# Altium footprint library robot_eseo.PcbLib: 96 footprints (part 1 of 6)
Each footprint in its own frame and in the unit in brackets; x right, y up, seen from the top. Pads: shape width x height; smd on the part's side, far side on the other; paste and mask are expansions set on the pad; w line width, h text height; cw(c..) or ccw(c..) is an arc to the next point about the centre after c.
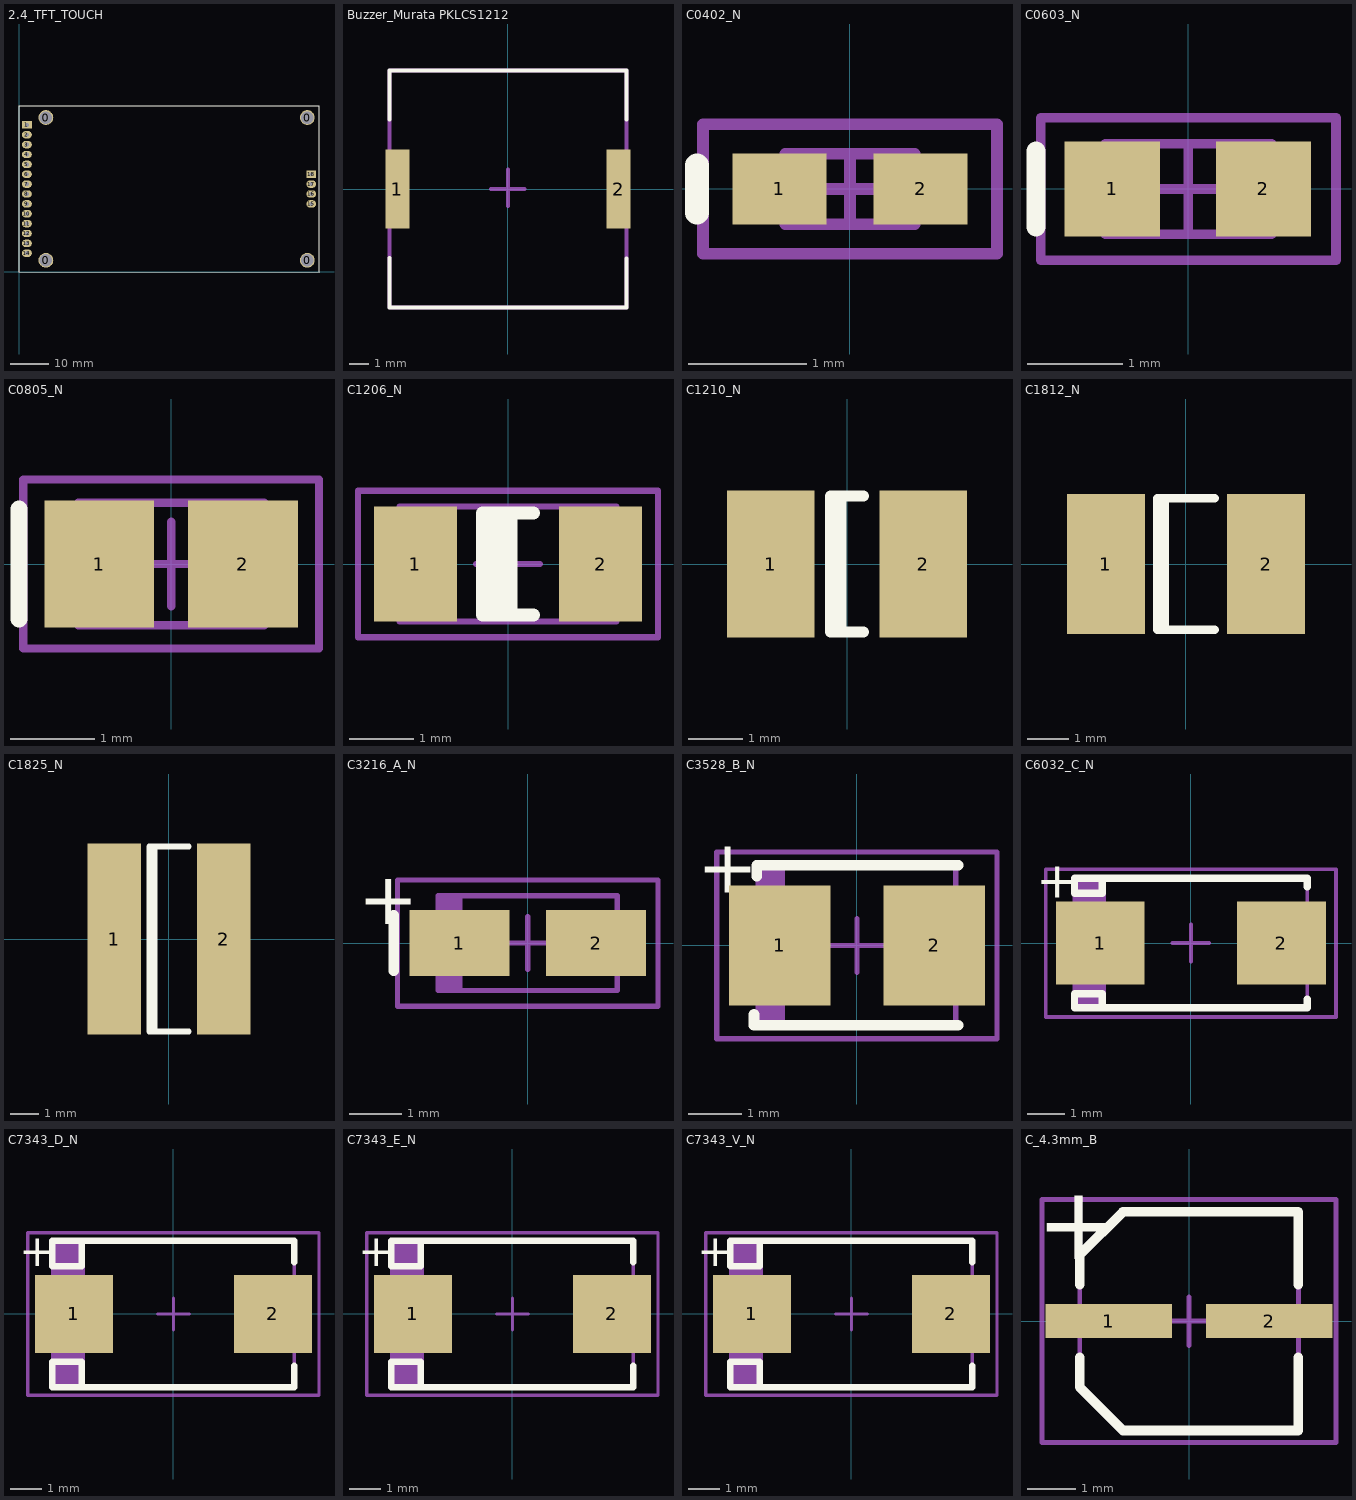
[diagram p0: the footprints below, top view; thin cyan lines are the x and y axes]

## 2.4_TFT_TOUCH [mil]
pads (22):
  round 150 hole 125: 0(272.44,118.11) 0(272.44,1563.78) 0(2920.47,118.11) 0(2920.47,1563.78)
  rect 100x75 hole 40: 1(80,1490) 18(2959.84,990)
  oval 100x75 hole 40: 2(80,1390) 3(80,1290) 4(80,1190) 5(80,1090) 6(80,990) 7(80,890) 8(80,790) 9(80,690) 10(80,590) 11(80,490) 12(80,390) 13(80,290) 14(80,190) 15(2959.84,690) 16(2959.84,790) 17(2959.84,890)
Top Overlay:
  lines w10: 0,0 3038.58,-0.94 ; 0,1681.89 3038.58,1681.89 3038.58,0 ; 1.26,-0.94 1.26,1681.89
3D body "2.4_TFT_TOUCH.STEP": height 337.17, standoff -233.7, extent 0,-0.95 3038.58,1680.95

## Buzzer_Murata PKLCS1212 [mm] "Buzzer_SMD_12x12mm Murata PKLCS1212"
height 3
pads (2):
  rect 1.2x4 smd: 1(-5.6,0) 2(5.6,0)
Top Overlay:
  lines w0.2: -6,-3.5 -6,-6 6,-6 6,-3.525 ; -6,3.525 -6,6 6,6 6,3.525
Mechanical 15:
  lines w0.2: -0.875,0 0.85,0 ; 0,-0.875 0,1 ; -6,-6 6,-6 6,6 -6,6 -6,-6
3D body: height 0, standoff 0, extent -6.302,-2.102 6.302,2.102
3D body: height 0, standoff 0, extent -5.999,-5.999 5.999,5.999
3D body: height 3, standoff 0, extent -6.1,-6.1 6.1,6.1

## C0402_N [mm] "Chip Capacitor, Body 1.0x0.5mm, IPC Medium Density"
height 0.6
pads (2):
  rect 0.8x0.6 smd: 1(-0.6,0) 2(0.6,0)
Top Overlay:
  lines w0.2: -1.3,-0.2 -1.3,0.2
Mechanical 13:
  lines w0.1: -0.55,-0.3 0.55,-0.3 0.55,0.3 -0.55,0.3 -0.55,-0.3
Mechanical 15:
  lines w0.1: -0.3,0 0.3,0 ; 0,-0.3 0,0.3 ; -1.25,-0.55 1.25,-0.55 1.25,0.55 -1.25,0.55 -1.25,-0.55
3D body "0402 SMD Capacitor.step": height 0.2, standoff 0, extent -0.5,-0.3 0.5,0.3

## C0603_N [mm] "Chip Capacitor, Body 1.6x0.8mm, IPC Medium Density"
height 0.85
pads (2):
  rect 1x1 smd: 1(-0.8,0) 2(0.787,0)
Top Overlay:
  lines w0.2: -1.6,-0.4 -1.6,0.4
Mechanical 13:
  lines w0.1: -0.875,-0.475 0.875,-0.475 0.875,0.475 -0.875,0.475 -0.875,-0.475
Mechanical 15:
  lines w0.1: -0.475,0 0.475,0 ; 0,-0.475 0,0.475 ; -1.55,-0.75 1.55,-0.75 1.55,0.75 -1.55,0.75 -1.55,-0.75
3D body "0603 SMD Capacitor.step": height 0.32, standoff 0.02, extent -0.8,-0.394 0.8,0.406

## C0805_N [mm] "Chip Capacitor, Body 2.0x1.3mm, IPC Medium Density"
height 1.1
pads (2):
  rect 1.3x1.5 smd: 1(-0.85,0) 2(0.85,0)
Top Overlay:
  lines w0.2: -1.8,-0.65 -1.8,0.65
Mechanical 13:
  lines w0.1: -1.1,-0.725 -1.1,0.725 1.1,0.725 1.1,-0.725 -1.1,-0.725
Mechanical 15:
  lines w0.1: -0.5,0 0.5,0 ; 0,-0.5 0,0.5 ; -1.75,-1 -1.75,1 1.75,1 1.75,-1 -1.75,-1
3D body "0805 SMD Capacitor.step": height 0.8, standoff 0.02, extent -0.991,-0.625 1.009,0.625

## C1206_N [mm] "Chip Capacitor, Body 3.2x1.6mm, IPC Medium Density"
height 1.35
pads (2):
  rect 1.3x1.8 smd: 1(-1.45,0) 2(1.45,0)
Top Overlay:
  rectangle: -0.4,-0.8 0.15,0.8
  lines w0.2: 0.4,-0.8 -0.4,-0.8 -0.4,0.8 0.4,0.8
Mechanical 13:
  lines w0.1: -1.7,-0.9 1.7,-0.9 1.7,0.9 -1.7,0.9 -1.7,-0.9
Mechanical 15:
  lines w0.1: -0.5,0 0.5,0 ; 0,-0.5 0,0.5 ; -2.35,-1.15 2.35,-1.15 2.35,1.15 -2.35,1.15 -2.35,-1.15
3D body "1206 SMD Capacitor.step": height 1.02, standoff 0.02, extent -1.575,-0.813 1.625,0.787

## C1210_N [mm] "Chip Capacitor; Body 3.2 x 2.5 mm (LxW typ)"
height 1.35
pads (2):
  rect 1.6x2.7 smd: 1(-1.4,0) 2(1.4,0)
Top Overlay:
  lines w0.2: -0.11,-1.25 -0.11,1.25 ; 0.3,-1.25 -0.3,-1.25 -0.3,1.25 0.3,1.25
3D body "1210 SMD Capacitor.step": height 2.5, standoff 0, extent -1.575,-1.255 1.625,1.245

## C1812_N [mm] "Chip Capacitor; Body 4.5 x 3.2 mm (LxW typ)"
height 1.1
pads (2):
  rect 1.9x3.4 smd: 1(-1.95,0) 2(1.95,0)
Top Overlay:
  lines w0.2: -0.51,-1.6 -0.51,1.6 ; 0.7,-1.6 -0.7,-1.6 -0.7,1.6 0.7,1.6
3D body "1812 SMD Capacitor.step": height 1.62, standoff 0.02, extent -2.199,-1.6 2.301,1.6

## C1825_N [mm] "Chip Capacitor; Body 4.5 x 6.4 mm (LxW typ)"
height 1.1
pads (2):
  rect 1.9x6.8 smd: 1(-1.95,0) 2(1.95,0)
Top Overlay:
  lines w0.2: -0.51,-3.3 -0.51,3.3 ; 0.7,-3.3 -0.7,-3.3 -0.7,3.3 0.7,3.3
3D body: height 1.1, standoff 0, extent -2.261,-3.226 2.261,3.175

## C3216_A_N [mm] "Capacitor Tantalium Solid,Caze A, IPC Medium Density"
height 2
pads (2):
  rect 1.9x1.25 smd: 1(-1.3,0) 2(1.3,0)
Top Overlay:
  lines w0.2: -2.55,-0.525 -2.55,0.525
  text "+" at -3.226,0.356 h1
Mechanical 13:
  rectangle: -1.7,-0.9 -1.243,0.9
  lines w0.1: -1.7,-0.9 1.7,-0.9 1.7,0.9 -1.7,0.9 -1.7,-0.9
Mechanical 15:
  lines w0.1: -0.5,0 0.5,0 ; 0,-0.5 0,0.5 ; -2.475,-1.2 2.475,-1.2 2.475,1.2 -2.475,1.2 -2.475,-1.2
3D body: height 2, standoff 0, extent -1.7,-0.9 1.7,0.9
3D body "Tantal_A.STEP": height 1.61, standoff 0, extent -1.575,-0.8 1.616,0.8

## C3528_B_N [mm] "Capacitor Tantalium Solid,Caze B, IPC Medium Density"
height 2.1
pads (2):
  rect 1.9x2.25 smd: 1(-1.45,0) 2(1.45,0)
Top Overlay:
  lines w0.2: -1.93,-1.295 -1.93,-1.499 1.895,-1.499 ; -1.88,1.295 -1.88,1.499 ; 1.9,1.5 -1.88,1.499 ; -1.88,1.499 -1.88,1.499
  text "+" at -2.997,0.991 h1
Mechanical 13:
  rectangle: -1.85,-1.5 -1.352,1.5
  lines w0.1: -1.85,-1.5 -1.85,1.5 1.85,1.5 1.85,-1.5 -1.85,-1.5
Mechanical 15:
  lines w0.1: -0.5,0 0.5,0 ; 0,-0.5 0,0.5 ; -2.625,-1.75 -2.625,1.75 2.625,1.75 2.625,-1.75 -2.625,-1.75
3D body: height 2.1, standoff 0, extent -1.85,-1.5 1.85,1.5
3D body "Tantal_B.STEP": height 1.91, standoff 0, extent -1.746,-1.4 1.746,1.4

## C6032_C_N [mm] "Capacitor Tantalium Solid,Caze C, IPC Medium Density"
height 2.8
pads (2):
  rect 2.4x2.25 smd: 1(-2.45,0) 2(2.45,0)
Top Overlay:
  lines w0.2: -2.4,-1.75 -2.4,-1.375 -3.15,-1.375 -3.15,-1.75 3.15,-1.75 3.15,-1.525 ; -2.4,1.75 -2.4,1.35 -3.15,1.35 -3.15,1.75 3.15,1.75 3.15,1.525
  text "+" at -4.191,1.219 h1
Mechanical 13:
  rectangle: -3.15,-1.75 -2.303,1.75
  lines w0.1: -3.15,-1.75 -3.15,1.75 3.15,1.75 3.15,-1.75 -3.15,-1.75
Mechanical 15:
  lines w0.1: -0.5,0 0.5,0 ; 0,-0.5 0,0.5 ; -3.925,-2 -3.925,2 3.925,2 3.925,-2 -3.925,-2
3D body: height 2.8, standoff 0, extent -3.15,-1.75 3.15,1.75
3D body "Tantal_C.STEP": height 2.51, standoff 0, extent -2.997,-1.6 2.997,1.6

## C7343_D_N [mm] "Capacitor Tantalium Solid,Caze D, IPC Medium Density"
height 3.1
pads (2):
  rect 2.45x2.45 smd: 1(-3.125,0) 2(3.125,0)
Top Overlay:
  lines w0.2: -2.875,-2.3 -2.875,-1.5 -3.8,-1.5 -3.8,-2.3 3.8,-2.3 3.8,-1.625 ; -2.875,2.3 -2.875,1.5 -3.8,1.5 -3.8,2.3 3.8,2.3 3.8,1.625
  text "+" at -4.85,1.5 h1
Mechanical 13:
  rectangle: -3.8,-2.3 -2.778,2.3
  lines w0.1: -3.8,-2.3 3.8,-2.3 3.8,2.3 -3.8,2.3 -3.8,-2.3
Mechanical 15:
  lines w0.1: -0.5,0 0.5,0 ; 0,-0.5 0,0.5 ; -4.575,-2.55 4.575,-2.55 4.575,2.55 -4.575,2.55 -4.575,-2.55
3D body: height 3.1, standoff 0, extent -3.8,-2.3 3.8,2.3
3D body "Tantal_D.STEP": height 2.81, standoff 0, extent -3.65,-2.15 3.644,2.15

## C7343_E_N [mm] "Capacitor Tantalium Solid,Caze E, IPC Medium Density"
height 4.3
pads (2):
  rect 2.45x2.45 smd: 1(-3.125,0) 2(3.125,0)
Top Overlay:
  lines w0.2: -2.875,-2.3 -2.875,-1.5 -3.8,-1.5 -3.8,-2.3 3.8,-2.3 3.8,-1.625 ; -2.875,2.3 -2.875,1.5 -3.8,1.5 -3.8,2.3 3.8,2.3 3.8,1.625
  text "+" at -4.85,1.5 h1
Mechanical 13:
  rectangle: -3.8,-2.3 -2.778,2.3
  lines w0.1: -3.8,-2.3 3.8,-2.3 3.8,2.3 -3.8,2.3 -3.8,-2.3
Mechanical 15:
  lines w0.1: -0.5,0 0.5,0 ; 0,-0.5 0,0.5 ; -4.575,-2.55 4.575,-2.55 4.575,2.55 -4.575,2.55 -4.575,-2.55
3D body: height 4.3, standoff 0, extent -3.8,-2.3 3.8,2.3
3D body "Tantal_E.STEP": height 4.11, standoff 0, extent -3.65,-2.15 3.644,2.15

## C7343_V_N [mm] "Capacitor Tantalium Solid,Caze V, IPC Medium Density"
height 2
pads (2):
  rect 2.45x2.45 smd: 1(-3.125,0) 2(3.125,0)
Top Overlay:
  lines w0.2: -2.875,-2.3 -2.875,-1.5 -3.8,-1.5 -3.8,-2.3 3.8,-2.3 3.8,-1.625 ; -2.875,2.3 -2.875,1.5 -3.8,1.5 -3.8,2.3 3.8,2.3 3.8,1.625
  text "+" at -4.85,1.5 h1
Mechanical 13:
  rectangle: -3.8,-2.3 -2.778,2.3
  lines w0.1: -3.8,-2.3 3.8,-2.3 3.8,2.3 -3.8,2.3 -3.8,-2.3
Mechanical 15:
  lines w0.1: -0.5,0 0.5,0 ; 0,-0.5 0,0.5 ; -4.575,-2.55 4.575,-2.55 4.575,2.55 -4.575,2.55 -4.575,-2.55
3D body: height 2, standoff 0, extent -3.8,-2.3 3.8,2.3
3D body "Tantal_V.STEP": height 2.01, standoff 0, extent -3.65,-2.15 3.642,2.15

## C_4.3mm_B [mm] "Capacitor Aluminium Electrolytic,Caze B, IPC Medium Density"
height 5.8
pads (2):
  rect 2.6x0.7 smd: 1(-1.651,0) 2(1.651,0)
Top Overlay:
  lines w0.2: -2.25,-0.75 -2.25,-1.357 -1.357,-2.25 2.25,-2.25 2.25,-0.75 ; -2.25,0.75 -2.25,1.357 -1.357,2.25 2.25,2.25 2.25,0.75
  text "+" at -3.15,1.27 h1.52
Mechanical 13:
  lines w0.1: -2.25,-1.357 -1.357,-2.25 2.25,-2.25 2.25,2.25 -1.331,2.25 -2.25,1.331 -2.25,-1.357
Mechanical 15:
  lines w0.1: -0.5,0 0.5,0 ; 0,-0.5 0,0.5 ; -3.025,-2.5 -3.025,2.5 3.025,2.5 3.025,-2.5 -3.025,-2.5
3D body: height 5.8, standoff 0, extent -2.251,-2.251 2.251,2.251
3D body "capacitor size B.STEP": height 5.41, standoff -0.01, extent -2.337,-2.192 2.263,2.108